# Altium schematic symbol library SamacSys.SchLib: 131 symbols (part 2 of 2)
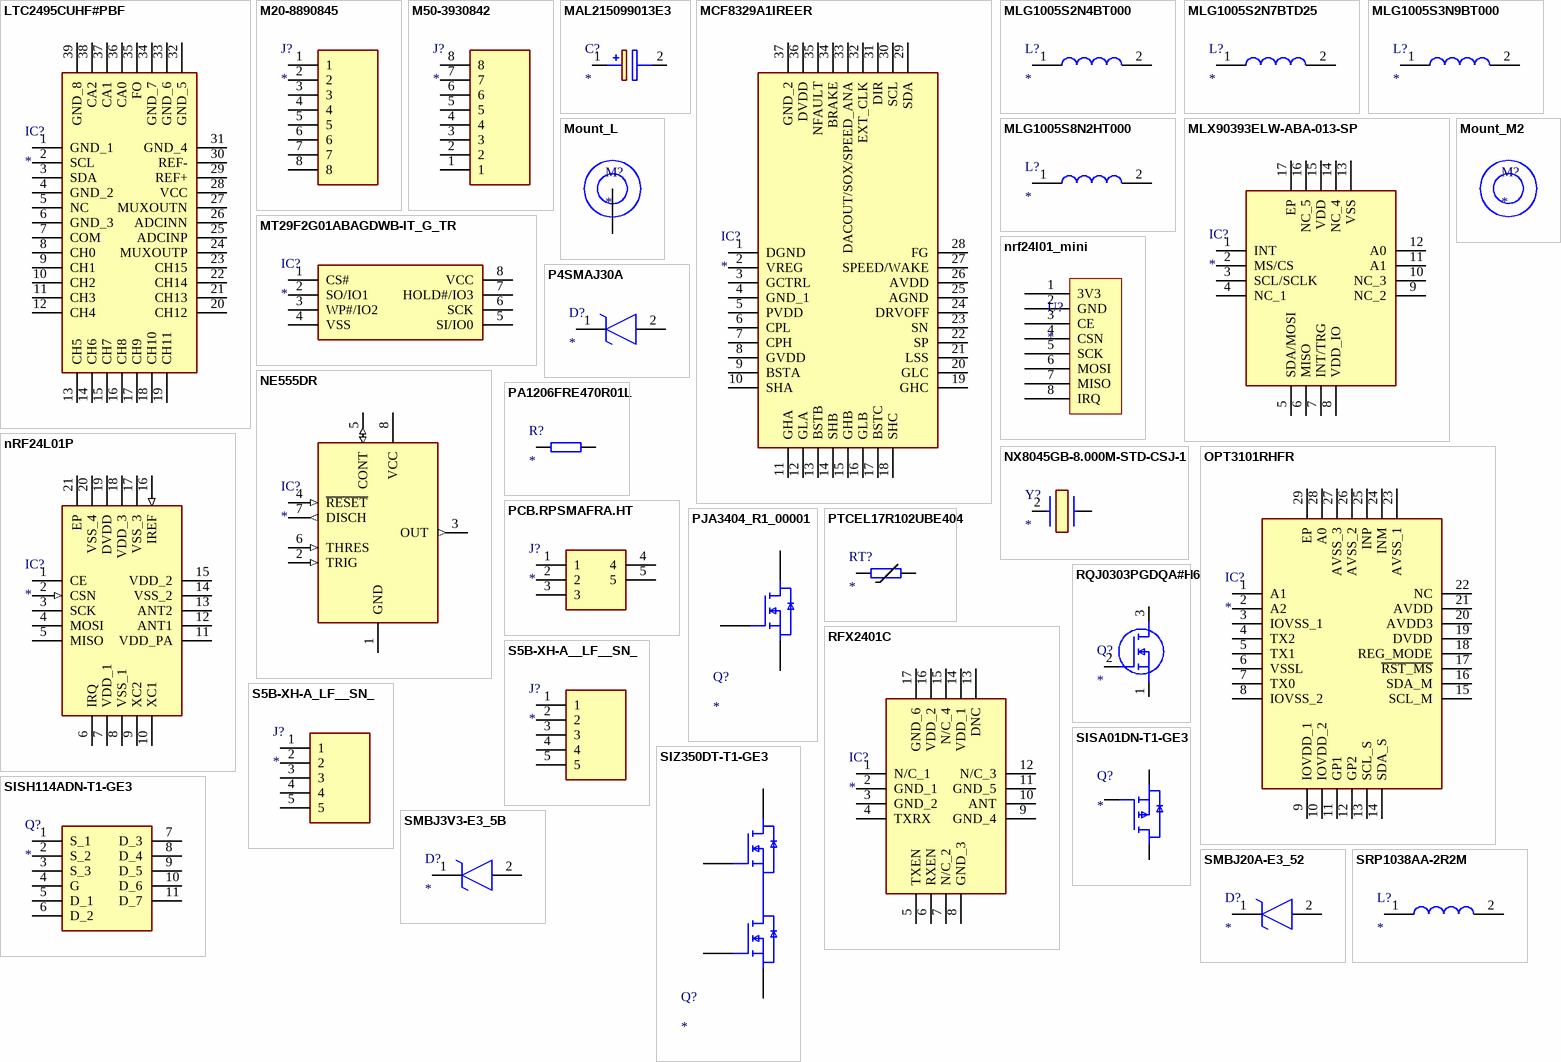
[diagram p5: symbols LTC2495CUHF#PBF to SRP1038AA-2R2M]

## PCB.RPSMAFRA.HT
designator J?
Connector; Manufacturer_Name: Taoglas; Manufacturer_Part_Number: PCB.RPSMAFRA.HT; Datasheet Link: https://www.taoglas.com/datasheets/PCB.RPSMAFRA.HT.pdf; Height: 9.5mm; Arrow Part Number: PCB.RPSMAFRA.HT; Arrow Price/Stock: https://www.arrow.com/en/products/pcb.rpsmafra.ht/taoglas?region=nac
footprint PCBRPSMAFRAHT
pins: 1, 2, 3, 4, 5

## PJA3404_R1_00001
designator Q?
Integrated Circuit; Manufacturer_Name: PANJIT; Manufacturer_Part_Number: PJA3404_R1_00001; Datasheet Link: https://www.mouser.fr/datasheet/2/1057/PJA3404-1867365.pdf; Height: 1.1mm; Mouser Part Number: 241-PJA3404_R1_00001; Mouser Price/Stock: https://www.mouser.co.uk/ProductDetail/Panjit/PJA3404_R1_00001?qs=sPbYRqrBIVkiUO9ZInE3tw%3D%3D
footprint SOT95P240X110-3N
pins: 1 G, 2 S, 3 D

## PTCEL17R102UBE404
designator RT?
Thermistor; Manufacturer_Name: Vishay; Manufacturer_Part_Number: PTCEL17R102UBE404; Datasheet Link: https://www.vishay.com/docs/29165/ptcel_series.pdf; Height: 20mm
footprint PTCEL17R102UBE404
pins: 1, 2

## RFX2401C
designator IC?
Integrated Circuit; Manufacturer_Name: Skyworks; Manufacturer_Part_Number: RFX2401C; Datasheet Link: https://eu.mouser.com/datasheet/2/472/RFX2401C_204359B-1524606.pdf; Height: 0.6mm; Arrow Part Number: RFX2401C; Arrow Price/Stock: https://www.arrow.com/en/products/rfx2401c/skyworks-solutions?region=nac
footprint QFN50P300X300X60-17N-D
pins: 1 N/C_1, 2 GND_1, 3 GND_2, 4 TXRX, 5 TXEN, 6 RXEN, 7 N/C_2, 8 GND_3, 9 GND_4, 10 ANT, 11 GND_5, 12 N/C_3, 13 DNC, 14 VDD_1, 15 N/C_4, 16 VDD_2, 17 GND_6

## RQJ0303PGDQA#H6
designator Q?
MOSFET (N-Channel); Manufacturer_Name: Renesas Electronics; Manufacturer_Part_Number: RQJ0303PGDQA#H6; Datasheet Link: https://www.mouser.in/datasheet/2/698/r07ds0295ej0600_rqj0303pgd-1093078.pdf; Height: 1.3mm; Mouser Part Number: 968-RQJ0303PGDQA#H6; Mouser Price/Stock: https://www.mouser.com/Search/Refine.aspx?Keyword=968-RQJ0303PGDQA%23H6; Arrow Part Number: RQJ0303PGDQA#H6; Arrow Price/Stock: https://www.arrow.com/en/products/rqj0303pgdqah6/renesas-electronics
footprint SOT95P260X130-3N
pins: 1 S, 2 G, 3 D

## S5B-XH-A__LF__SN_
designator J?
Connector; Manufacturer_Name: JST (JAPAN SOLDERLESS TERMINALS); Manufacturer_Part_Number: S5B-XH-A (LF)(SN); Datasheet Link: http://www.jst-mfg.com/product/pdf/eng/eXH.pdf; Height: 6.1mm
footprint SHDRRA5W64P0X250_1X5_1490X1150X610P
pins: 1, 2, 3, 4, 5

## S5B-XH-A_LF__SN_
designator J?
Connector; Manufacturer_Name: JST (JAPAN SOLDERLESS TERMINALS); Manufacturer_Part_Number: S5B-XH-A(LF)(SN); Datasheet Link: http://www.jst-mfg.com/product/pdf/eng/eXH.pdf; Height: 6.1mm; Mouser Part Number: 306-S5B-XH-ALFSN; Mouser Price/Stock: https://www.mouser.co.uk/ProductDetail/JST-Commercial/S5B-XH-ALFSN?qs=QpmGXVUTftFJm7Okp%252B2lFg%3D%3D; Arrow Part Number: S5B-XH-A(LF)(SN); Arrow Price/Stock: https://www.arrow.com/en/products/s5b-xh-a-lf-sn/jst-manufacturing?utm_currency=USD&region=europe
footprint SHDRRA5W64P0X250_1X5_1490X1150X610P
pins: 1, 2, 3, 4, 5

## SISA01DN-T1-GE3
designator Q?
MOSFET (P-Channel); Manufacturer_Name: Vishay; Manufacturer_Part_Number: SISA01DN-T1-GE3; Datasheet Link: https://www.vishay.com/docs/76198/sisa01dn.pdf; Mouser Part Number: 78-SISA01DN-T1-GE3; Mouser Price/Stock: https://www.mouser.co.uk/ProductDetail/Vishay-Semiconductors/SISA01DN-T1-GE3?qs=chTDxNqvsymq6IcOj9ze4g%3D%3D; Arrow Part Number: SISA01DN-T1-GE3; Arrow Price/Stock: https://www.arrow.com/en/products/sisa01dn-t1-ge3/vishay?region=nac
footprint SIS862DNT1GE3
pins: 1 S_1, 2 S_2, 3 S_3, 4 G, 5 D_1, 6 D_2, 7 D_3, 8 D_4, 9 D_4

## SISH114ADN-T1-GE3
designator Q?
MOSFET (N-Channel); Manufacturer_Name: Vishay; Manufacturer_Part_Number: SISH114ADN-T1-GE3; Datasheet Link: https://www.vishay.com/docs/75172/sish114ad.pdf; Height: 0.61mm; Mouser Part Number: 78-SISH114ADN-T1-GE3; Mouser Price/Stock: https://www.mouser.co.uk/ProductDetail/Vishay-Semiconductors/SISH114ADN-T1-GE3?qs=u16ybLDytRaGGJeaW9W%252Byw%3D%3D; Arrow Part Number: SISH114ADN-T1-GE3; Arrow Price/Stock: https://www.arrow.com/en/products/sish114adn-t1-ge3/vishay?region=nac
footprint SISH114ADNT1GE3
pins: 1 S_1, 2 S_2, 3 S_3, 4 G, 5 D_1, 6 D_2, 7 D_3, 8 D_4, 9 D_5, 10 D_6, 11 D_7

## SIZ350DT-T1-GE3
designator Q?
MOSFET (N-Channel); Manufacturer_Name: Vishay; Manufacturer_Part_Number: SIZ350DT-T1-GE3; Datasheet Link: https://www.vishay.com/docs/76540/siz350dt.pdf; Height: 0.8mm; Mouser Part Number: 78-SIZ350DT-T1-GE3; Mouser Price/Stock: https://www.mouser.co.uk/ProductDetail/Vishay-Semiconductors/SIZ350DT-T1-GE3?qs=lYGu3FyN48cMc1GqeZv%2F3g%3D%3D; Arrow Part Number: SIZ350DT-T1-GE3; Arrow Price/Stock: https://www.arrow.com/en/products/siz350dt-t1-ge3/vishay
footprint SIZ350DTT1GE3
pins: 1 G1, 2 D1_1, 3 D1_2, 4 D1_3, 5 S2_1, 6 S2_2, 7 S2_3, 8 G2, 9 S1/D2, 10 D1_4

## SMBJ3V3-E3_5B
designator D?
TVS Diode (Uni-directional); Manufacturer_Name: Vishay; Manufacturer_Part_Number: SMBJ3V3-E3/5B; Datasheet Link: https://www.vishay.com/docs/88940/smbj3v3.pdf; Height: 2.44mm; Mouser Part Number: 625-SMBJ3V3-E3/5B; Mouser Price/Stock: https://www.mouser.co.uk/ProductDetail/Vishay-General-Semiconductor/SMBJ3V3-E3-5B?qs=%252BKsK5HlK7GFCvIE1%252BXTysQ%3D%3D; Arrow Part Number: SMBJ3V3-E3/5B; Arrow Price/Stock: https://www.arrow.com/en/products/smbj3v3-e35b/vishay?region=nac
footprint DIOM5436X244N
pins: 1 K, 2 A

## SMBJ20A-E3_52
designator D?
TVS Diode (Uni-directional); Manufacturer_Name: Vishay; Manufacturer_Part_Number: SMBJ20A-E3/52; Datasheet Link: http://www.vishay.com/docs/88392/smbj.pdf; Height: 2.44mm; Mouser Part Number: 625-SMBJ20A-E3; Mouser Price/Stock: https://www.mouser.co.uk/ProductDetail/Vishay-General-Semiconductor/SMBJ20A-E3-52?qs=%252BKsK5HlK7GGHijeGSDEfxQ%3D%3D; Arrow Part Number: SMBJ20A-E3/52; Arrow Price/Stock: https://www.arrow.com/en/products/smbj20a-e352/vishay?region=nac
footprint DIOM5436X244N
pins: 1 K, 2 A

## SRP1038AA-2R2M
designator L?
Inductor; Manufacturer_Name: Bourns; Manufacturer_Part_Number: SRP1038AA-2R2M; Datasheet Link: https://www.bourns.com/docs/product-datasheets/srp1038aa.pdf?sfvrsn=2d1249f6_10; Height: 4mm; Mouser Part Number: 652-SRP1038AA-2R2M; Mouser Price/Stock: https://www.mouser.co.uk/ProductDetail/Bourns/SRP1038AA-2R2M?qs=CiayqK2gdcI6YlQsqke%2F8A%3D%3D; Arrow Part Number: SRP1038AA-2R2M; Arrow Price/Stock: https://www.arrow.com/en/products/srp1038aa-2r2m/bourns?region=nac
footprint INDPM110100X400N
pins: 1, 2

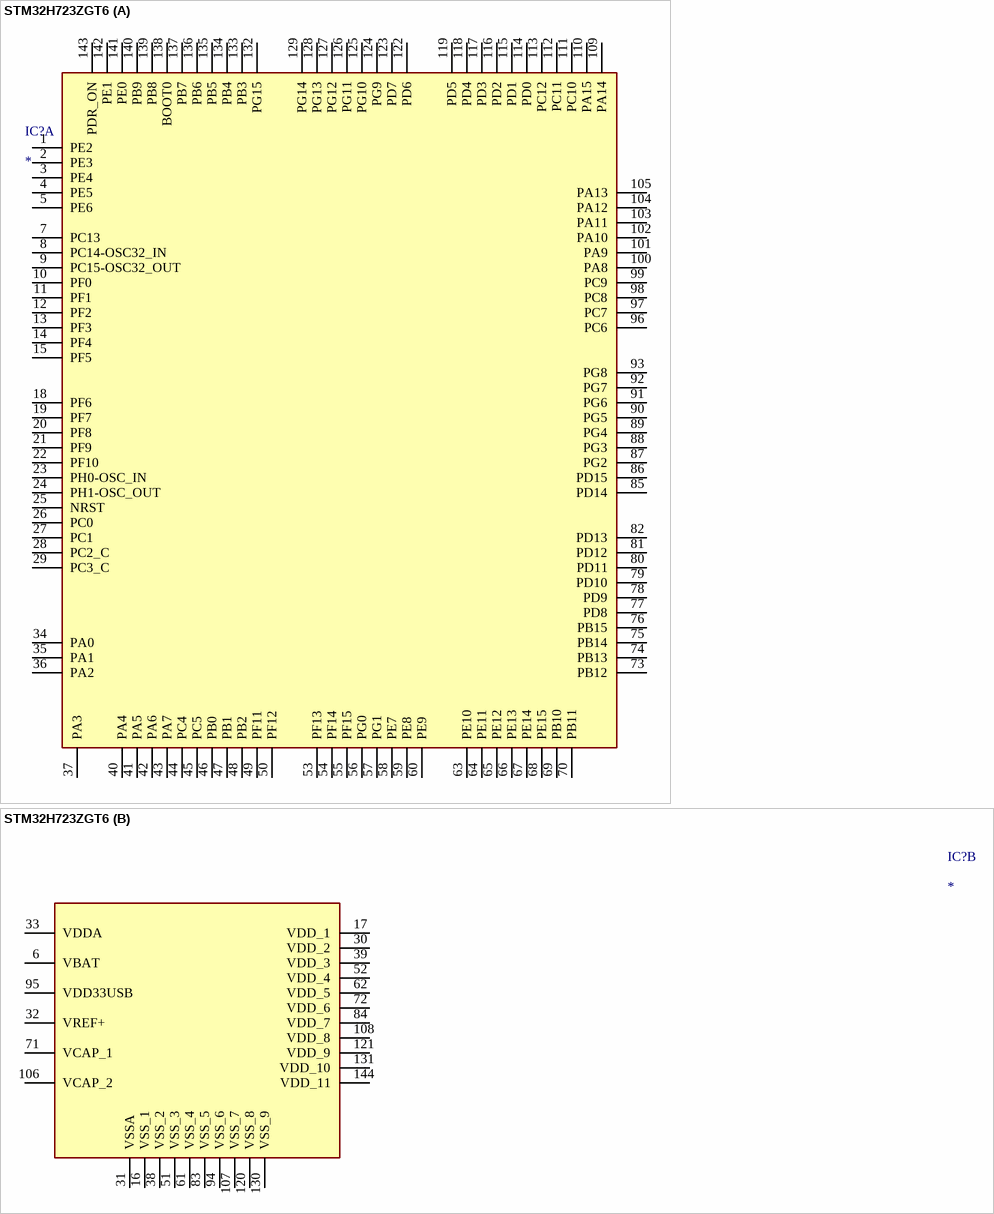
[diagram p3: symbol STM32H723ZGT6]

## STM32H723ZGT6
designator IC?
Integrated Circuit; Manufacturer_Name: STMicroelectronics; Manufacturer_Part_Number: STM32H723ZGT6; Datasheet Link: https://www.mouser.cn/datasheet/2/389/stm32h723zg-1893346.pdf; Height: 1.6mm; Mouser Part Number: 511-STM32H723ZGT6; Mouser Price/Stock: https://www.mouser.co.uk/ProductDetail/STMicroelectronics/STM32H723ZGT6?qs=sPbYRqrBIVkPaOxQT7wG%252BA%3D%3D; Arrow Part Number: STM32H723ZGT6; Arrow Price/Stock: https://www.arrow.com/en/products/stm32h723zgt6/stmicroelectronics?region=nac
footprint QFP50P2200X2200X160-144N
part A pins: 1 PE2, 2 PE3, 3 PE4, 4 PE5, 5 PE6, 7 PC13, 8 PC14-OSC32_IN, 9 PC15-OSC32_OUT, 10 PF0, 11 PF1, 12 PF2, 13 PF3, 14 PF4, 15 PF5, 18 PF6, 19 PF7, 20 PF8, 21 PF9, 22 PF10, 23 PH0-OSC_IN, 24 PH1-OSC_OUT, 25 NRST, 26 PC0, 27 PC1, 28 PC2_C, 29 PC3_C, 34 PA0, 35 PA1, 36 PA2, 37 PA3, 40 PA4, 41 PA5, 42 PA6, 43 PA7, 44 PC4, 45 PC5, 46 PB0, 47 PB1, 48 PB2, 49 PF11, 50 PF12, 53 PF13, 54 PF14, 55 PF15, 56 PG0, 57 PG1, 58 PE7, 59 PE8, 60 PE9, 63 PE10, 64 PE11, 65 PE12, 66 PE13, 67 PE14, 68 PE15, 69 PB10, 70 PB11, 73 PB12, 74 PB13, 75 PB14, 76 PB15, 77 PD8, 78 PD9, 79 PD10, 80 PD11, 81 PD12, 82 PD13, 85 PD14, 86 PD15, 87 PG2, 88 PG3, 89 PG4, 90 PG5, 91 PG6, 92 PG7, 93 PG8, 96 PC6, 97 PC7, 98 PC8, 99 PC9, 100 PA8, 101 PA9, 102 PA10, 103 PA11, 104 PA12, 105 PA13, 109 PA14, 110 PA15, 111 PC10, 112 PC11, 113 PC12, 114 PD0, 115 PD1, 116 PD2, 117 PD3, 118 PD4, 119 PD5, 122 PD6, 123 PD7, 124 PG9, 125 PG10, 126 PG11, 127 PG12, 128 PG13, 129 PG14, 132 PG15, 133 PB3, 134 PB4, 135 PB5, 136 PB6, 137 PB7, 138 BOOT0, 139 PB8, 140 PB9, 141 PE0, 142 PE1, 143 PDR_ON
part B pins: 6 VBAT, 16 VSS_1, 17 VDD_1, 30 VDD_2, 31 VSSA, 32 VREF+, 33 VDDA, 38 VSS_2, 39 VDD_3, 51 VSS_3, 52 VDD_4, 61 VSS_4, 62 VDD_5, 71 VCAP_1, 72 VDD_6, 83 VSS_5, 84 VDD_7, 94 VSS_6, 95 VDD33USB, 106 VCAP_2, 107 VSS_7, 108 VDD_8, 120 VSS_8, 121 VDD_9, 130 VSS_9, 131 VDD_10, 144 VDD_11

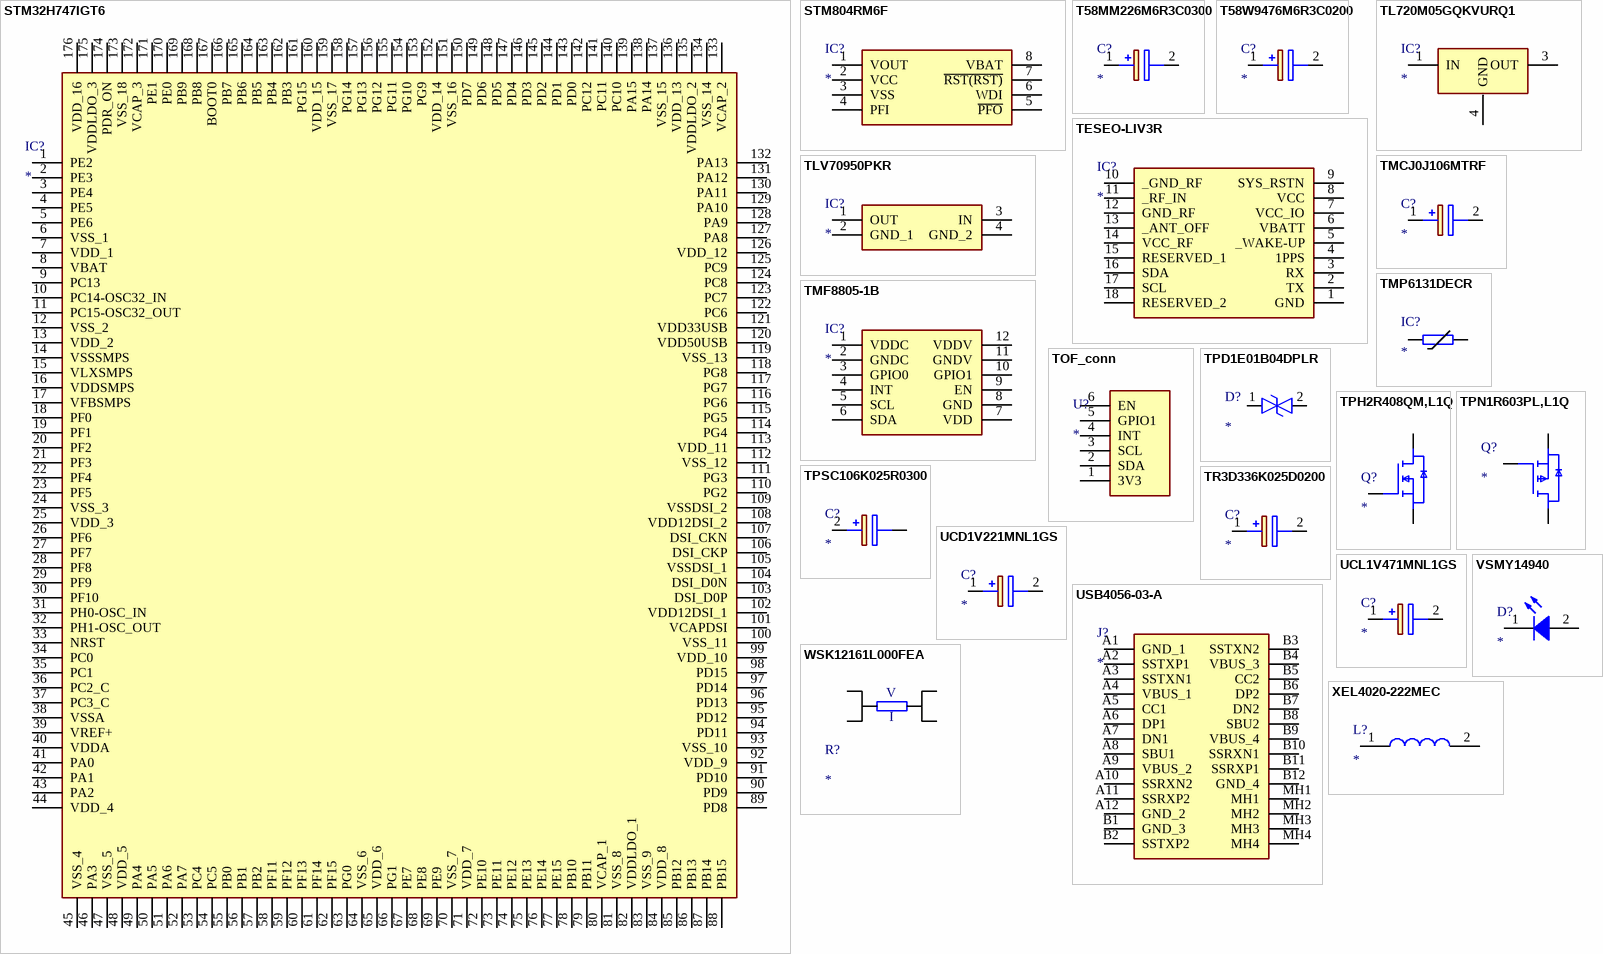
[diagram p4: symbols STM32H747IGT6 to XEL4020-222MEC]

## STM32H747IGT6
designator IC?
Integrated Circuit; Manufacturer_Name: STMicroelectronics; Manufacturer_Part_Number: STM32H747IGT6; Datasheet Link: https://www.mouser.com/datasheet/2/389/dm00602212-1799407.pdf; Height: 1.6mm; Mouser Part Number: 511-STM32H747IGT6; Mouser Price/Stock: https://www.mouser.co.uk/ProductDetail/STMicroelectronics/STM32H747IGT6?qs=%252B6g0mu59x7Kw%252BsPEalqvLg%3D%3D; Arrow Part Number: STM32H747IGT6; Arrow Price/Stock: null?region=nac
footprint QFP50P2600X2600X160-176N
pins: 1 PE2, 2 PE3, 3 PE4, 4 PE5, 5 PE6, 6 VSS_1, 7 VDD_1, 8 VBAT, 9 PC13, 10 PC14-OSC32_IN, 11 PC15-OSC32_OUT, 12 VSS_2, 13 VDD_2, 14 VSSSMPS, 15 VLXSMPS, 16 VDDSMPS, 17 VFBSMPS, 18 PF0, 19 PF1, 20 PF2, 21 PF3, 22 PF4, 23 PF5, 24 VSS_3, 25 VDD_3, 26 PF6, 27 PF7, 28 PF8, 29 PF9, 30 PF10, 31 PH0-OSC_IN, 32 PH1-OSC_OUT, 33 NRST, 34 PC0, 35 PC1, 36 PC2_C, 37 PC3_C, 38 VSSA, 39 VREF+, 40 VDDA, 41 PA0, 42 PA1, 43 PA2, 44 VDD_4, 45 VSS_4, 46 PA3, 47 VSS_5, 48 VDD_5, 49 PA4, 50 PA5, 51 PA6, 52 PA7, 53 PC4, 54 PC5, 55 PB0, 56 PB1, 57 PB2, 58 PF11, 59 PF12, 60 PF13, 61 PF14, 62 PF15, 63 PG0, 64 VSS_6, 65 VDD_6, 66 PG1, 67 PE7, 68 PE8, 69 PE9, 70 VSS_7, 71 VDD_7, 72 PE10, 73 PE11, 74 PE12, 75 PE13, 76 PE14, 77 PE15, 78 PB10, 79 PB11, 80 VCAP_1, 81 VSS_8, 82 VDDLDO_1, 83 VSS_9, 84 VDD_8, 85 PB12, 86 PB13, 87 PB14, 88 PB15, 89 PD8, 90 PD9, 91 PD10, 92 VDD_9, 93 VSS_10, 94 PD11, 95 PD12, 96 PD13, 97 PD14, 98 PD15, 99 VDD_10, 100 VSS_11, 101 VCAPDSI, 102 VDD12DSI_1, 103 DSI_D0P, 104 DSI_D0N, 105 VSSDSI_1, 106 DSI_CKP, 107 DSI_CKN, 108 VDD12DSI_2, 109 VSSDSI_2, 110 PG2, 111 PG3, 112 VSS_12, 113 VDD_11, 114 PG4, 115 PG5, 116 PG6, 117 PG7, 118 PG8, 119 VSS_13, 120 VDD50USB, 121 VDD33USB, 122 PC6, 123 PC7, 124 PC8, 125 PC9, 126 VDD_12, 127 PA8, 128 PA9, 129 PA10, 130 PA11, 131 PA12, 132 PA13, 133 VCAP_2, 134 VSS_14, 135 VDDLDO_2, 136 VDD_13, 137 VSS_15, 138 PA14, 139 PA15, 140 PC10, 141 PC11, 142 PC12, 143 PD0, 144 PD1, 145 PD2, 146 PD3, 147 PD4, 148 PD5, 149 PD6, 150 PD7, 151 VSS_16, 152 VDD_14, 153 PG9, 154 PG10, 155 PG11, 156 PG12, 157 PG13, 158 PG14, 159 VSS_17, 160 VDD_15, 161 PG15, 162 PB3, 163 PB4, 164 PB5, 165 PB6, 166 PB7, 167 BOOT0, 168 PB8, 169 PB9, 170 PE0, 171 PE1, 172 VCAP_3, 173 VSS_18, 174 PDR_ON, 175 VDDLDO_3, 176 VDD_16

## STM804RM6F
designator IC?
Integrated Circuit; Manufacturer_Name: STMicroelectronics; Manufacturer_Part_Number: STM804RM6F; Datasheet Link: https://www.st.com/resource/en/datasheet/stm690t-slsh-s-slsh-r.pdf; Height: 1.75mm
footprint SOIC127P600X175-8N
pins: 1 VOUT, 2 VCC, 3 VSS, 4 PFI, 5 ~{PFO}, 6 WDI, 7 ~{RST(RST)}, 8 VBAT

## T58MM226M6R3C0300
designator C?
Capacitor Polarised; Manufacturer_Name: Vishay; Manufacturer_Part_Number: T58MM226M6R3C0300; Datasheet Link: https://componentsearchengine.com/Datasheets/2/T58MM226M6R3C0300.pdf; Height: 0.9mm; Arrow Part Number: T58MM226M6R3C0300; Arrow Price/Stock: https://www.arrow.com/en/products/t58mm226m6r3c0300/vishay?utm_currency=USD&region=nac
footprint T58MM226M6R3C0300
pins: 1 +, 2 -

## T58W9476M6R3C0200
designator C?
Capacitor Polarised; Manufacturer_Name: Vishay; Manufacturer_Part_Number: T58W9476M6R3C0200; Datasheet Link: https://www.vishay.com/docs/40189/t58.pdf; Height: 0.9mm; Mouser Part Number: 74-T58W9476M6R3C0200; Mouser Price/Stock: https://www.mouser.com/Search/Refine.aspx?Keyword=74-T58W9476M6R3C0200
footprint CAPPC2012X90N
pins: 1 +, 2 -

## TESEO-LIV3R
designator IC?
Integrated Circuit; Manufacturer_Name: STMicroelectronics; Manufacturer_Part_Number: TESEO-LIV3R; Datasheet Link: https://www.st.com/resource/en/datasheet/teseo-liv3r.pdf; Height: 2.3mm; Mouser Part Number: 511-TESEO-LIV3R; Mouser Price/Stock: https://www.mouser.co.uk/ProductDetail/STMicroelectronics/TESEO-LIV3R?qs=ZSypp649SOXG7EmhCFcBlw%3D%3D; Arrow Part Number: TESEO-LIV3R; Arrow Price/Stock: https://www.arrow.com/en/products/teseo-liv3r/stmicroelectronics?region=nac
footprint TESEOLIV3R
pins: 1 GND, 2 TX, 3 RX, 4 1PPS, 5 _WAKE-UP, 6 VBATT, 7 VCC_IO, 8 VCC, 9 SYS_RSTN, 10 _GND_RF, 11 _RF_IN, 12 GND_RF, 13 _ANT_OFF, 14 VCC_RF, 15 RESERVED_1, 16 SDA, 17 SCL, 18 RESERVED_2

## TL720M05GQKVURQ1
designator IC?
Integrated Circuit; Manufacturer_Name: Texas Instruments; Manufacturer_Part_Number: TL720M05GQKVURQ1; Datasheet Link: http://www.ti.com/lit/gpn/tl720m05-q1; Height: 2.52mm; Mouser Part Number: 595-TL720M05GQKVURQ1; Mouser Price/Stock: https://www.mouser.co.uk/ProductDetail/Texas-Instruments/TL720M05GQKVURQ1?qs=34RfhUjJmKfV09QCCUZOwA%3D%3D; Arrow Part Number: TL720M05GQKVURQ1; Arrow Price/Stock: https://www.arrow.com/en/products/tl720m05gqkvurq1/texas-instruments?region=nac
footprint TL720M05GQKVURQ1
pins: 1 IN, 3 OUT, 4 GND

## TLV70950PKR
designator IC?
Integrated Circuit; Manufacturer_Name: Texas Instruments; Manufacturer_Part_Number: TLV70950PKR; Datasheet Link: https://www.ti.com/lit/gpn/tlv709; Height: 1.6mm; Mouser Part Number: 595-TLV70950PKR; Mouser Price/Stock: https://www.mouser.co.uk/ProductDetail/Texas-Instruments/TLV70950PKR?qs=dbcCsuKDzFU3yYGsVf2izQ%3D%3D; Arrow Part Number: TLV70950PKR; Arrow Price/Stock: null?region=nac
footprint TL431AQPKG3
pins: 1 OUT, 2 GND_1, 3 IN, 4 GND_2

## TMCJ0J106MTRF
designator C?
Capacitor Polarised; Manufacturer_Name: Vishay; Manufacturer_Part_Number: TMCJ0J106MTRF; Datasheet Link: https://componentsearchengine.com/Datasheets/2/TMCJ0J106MTRF.pdf; Height: 0.9mm; Mouser Part Number: 74-TMCJ0J106MTRF; Mouser Price/Stock: https://www.mouser.co.uk/ProductDetail/Vishay-Sprague/TMCJ0J106MTRF?qs=WatphXlIDnwX%2FmRnq8idiA%3D%3D; Arrow Part Number: TMCJ0J106MTRF; Arrow Price/Stock: https://www.arrow.com/en/products/tmcj0j106mtrf/vishay
footprint CAPPM168X90N
pins: 1 +, 2 -

## TMF8805-1B
designator IC?
Integrated Circuit; Manufacturer_Name: ams OSRAM; Manufacturer_Part_Number: TMF8805-1B; Datasheet Link: https://ams.com/documents/20143/4372629/TMF8805_DS000692_4-00.pdf; Height: 1.1mm; Mouser Part Number: 985-TMF8805-1B; Mouser Price/Stock: https://www.mouser.co.uk/ProductDetail/ams-OSRAM/TMF8805-1B?qs=sPbYRqrBIVlwsjHE%2F%252BrL9g%3D%3D
footprint TMF88051B
pins: 1 VDDC, 2 GNDC, 3 GPIO0, 4 INT, 5 SCL, 6 SDA, 7 VDD, 8 GND, 9 EN, 10 GPIO1, 11 GNDV, 12 VDDV

## TMP6131DECR
designator IC?
Integrated Circuit; Manufacturer_Name: Texas Instruments; Manufacturer_Part_Number: TMP6131DECR; Datasheet Link: http://www.ti.com/lit/gpn/TMP61; Height: 0.5mm; Mouser Part Number: 595-TMP6131DECR; Mouser Price/Stock: https://www.mouser.co.uk/ProductDetail/Texas-Instruments/TMP6131DECR?qs=l7cgNqFNU1jnXQehRCOLwA%3D%3D; Arrow Part Number: TMP6131DECR; Arrow Price/Stock: https://www.arrow.com/en/products/tmp6131decr/texas-instruments?region=nac
footprint TMP6131DECR
pins: 1, 2

## TOF_conn
designator U?
footprint PCBComponent_1
pins: 1 3V3, 2 SDA, 3 SCL, 4 INT, 5 GPIO1, 6 EN

## TPD1E01B04DPLR
designator D?
Integrated Circuit; Manufacturer_Name: Texas Instruments; Manufacturer_Part_Number: TPD1E01B04DPLR; Datasheet Link: http://www.ti.com/lit/gpn/tpd1e01b04; Mouser Part Number: 595-TPD1E01B04DPLR; Mouser Price/Stock: https://www.mouser.co.uk/ProductDetail/Texas-Instruments/TPD1E01B04DPLR?qs=uP22XH7NdCsrFm7BXQml9g%3D%3D; Arrow Part Number: TPD1E01B04DPLR; Arrow Price/Stock: https://www.arrow.com/en/products/tpd1e01b04dplr/texas-instruments?region=nac
footprint DPL-(R-PX2SON-N2)
pins: 1, 2

## TPH2R408QM,L1Q
designator Q?
MOSFET (N-Channel); Manufacturer_Name: Toshiba; Manufacturer_Part_Number: TPH2R408QM,L1Q; Datasheet Link: https://toshiba.semicon-storage.com/info/docget.jsp?did=67915&prodName=TPH2R408QM; Height: 0.95mm; Mouser Part Number: 757-TPH2R408QM,L1Q; Mouser Price/Stock: https://www.mouser.co.uk/ProductDetail/Toshiba/TPH2R408QML1Q?qs=xZ%2FP%252Ba9zWqYNCnHzXd0pWA%3D%3D
footprint TPH2R408QML1Q
pins: 1 S_1, 2 S_2, 3 S_3, 4 G, 5 D_1, 6 D_2, 7 D_3, 8 D_4, 9 D_5

## TPN1R603PL,L1Q
designator Q?
MOSFET (N-Channel); Manufacturer_Name: Toshiba; Manufacturer_Part_Number: TPN1R603PL,L1Q; Datasheet Link: https://toshiba.semicon-storage.com/ap-en/semiconductor/product/mosfets/12v-300v-mosfets/detail.TPN1R603PL.html; Height: 0.9mm; Mouser Part Number: 757-TPN1R603PLL1Q; Mouser Price/Stock: https://www.mouser.co.uk/ProductDetail/Toshiba/TPN1R603PLL1Q?qs=bUPhaerQQeGYpGlYi%252BLguw%3D%3D; Arrow Part Number: TPN1R603PL,L1Q; Arrow Price/Stock: https://www.arrow.com/en/products/tpn1r603pll1q/toshiba?utm_currency=USD&region=nac
footprint TPN1R603PLL1Q
pins: 1 S_1, 2 S_2, 3 S_3, 4 G, 5 D_1, 6 D_2, 7 D_3, 8 D_4, 9 D_4

## TPSC106K025R0300
designator C?
Capacitor Polarised; Manufacturer_Name: Kyocera AVX; Manufacturer_Part_Number: TPSC106K025R0300; Datasheet Link: http://datasheets.avx.com/TPS.pdf; Height: 2.8mm; Mouser Part Number: 581-TPSC106K025R0300; Mouser Price/Stock: https://www.mouser.co.uk/ProductDetail/KYOCERA-AVX/TPSC106K025R0300?qs=xw8XwkEH2YWR0VQHvdYBmg%3D%3D; Arrow Part Number: TPSC106K025R0300; Arrow Price/Stock: https://www.arrow.com/en/products/tpsc106k025r0300/avx
footprint CAPPM6032X280N
pins: 2, ?1

## TR3D336K025D0200
designator C?
Capacitor Polarised; Manufacturer_Name: Vishay; Manufacturer_Part_Number: TR3D336K025D0200; Datasheet Link: http://www.vishay.com/doc?40080; Height: 3.1mm; Mouser Part Number: 74-TR3D336K025D0200; Mouser Price/Stock: https://www.mouser.com/Search/Refine.aspx?Keyword=74-TR3D336K025D0200
footprint CAPPM7343X310N
pins: 1 +, 2 -

## UCD1V221MNL1GS
designator C?
Capacitor Polarised; Manufacturer_Name: Nichicon; Manufacturer_Part_Number: UCD1V221MNL1GS; Datasheet Link: http://nichicon-us.com/english/products/pdfs/e-ucd.pdf; Height: 10.8mm; Mouser Part Number: 647-UCD1V221MNL1GS; Mouser Price/Stock: https://www.mouser.co.uk/ProductDetail/Nichicon/UCD1V221MNL1GS?qs=c0uEScvPYN17qZQKPp9AhQ%3D%3D; Arrow Part Number: UCD1V221MNL1GS; Arrow Price/Stock: null?region=nac
footprint CAPAE830X1080N
pins: 1 +, 2 -

## UCL1V471MNL1GS
designator C?
Capacitor Polarised; Manufacturer_Name: Nichicon; Manufacturer_Part_Number: UCL1V471MNL1GS; Datasheet Link: https://componentsearchengine.com/Datasheets/2/UCL1V471MNL1GS.pdf; Height: 14mm; Mouser Part Number: 647-UCL1V471MNL1GS; Mouser Price/Stock: https://www.mouser.co.uk/ProductDetail/Nichicon/UCL1V471MNL1GS?qs=eL6fcoQH66OJ00kUg6bCbQ%3D%3D; Arrow Part Number: UCL1V471MNL1GS; Arrow Price/Stock: https://www.arrow.com/en/products/ucl1v471mnl1gs/nichicon
footprint CAPAE1030X1400N
pins: 1 +, 2 -

## USB4056-03-A
designator J?
Connector; Manufacturer_Name: GCT (GLOBAL CONNECTOR TECHNOLOGY); Manufacturer_Part_Number: USB4056-03-A; Datasheet Link: https://www.mouser.jp/datasheet/2/837/usb4056-2448808.pdf; Height: 3.56mm; Mouser Part Number: 640-USB4056-03-A; Mouser Price/Stock: https://www.mouser.co.uk/ProductDetail/GCT/USB4056-03-A?qs=QNEnbhJQKvbZ7hZzgFEugA%3D%3D
footprint USB405603A
pins: A1 GND_1, A2 SSTXP1, A3 SSTXN1, A4 VBUS_1, A5 CC1, A6 DP1, A7 DN1, A8 SBU1, A9 VBUS_2, A10 SSRXN2, A11 SSRXP2, A12 GND_2, B1 GND_3, B2 SSTXP2, B3 SSTXN2, B4 VBUS_3, B5 CC2, B6 DP2, B7 DN2, B8 SBU2, B9 VBUS_4, B10 SSRXN1, B11 SSRXP1, B12 GND_4, MH1, MH2, MH3, MH4

## VSMY14940
designator D?
LED; Manufacturer_Name: Vishay; Manufacturer_Part_Number: VSMY14940; Datasheet Link: https://datasheet.datasheetarchive.com/originals/distributors/Datasheets-DGA2/206314.pdf; Height: 2.61mm; Mouser Part Number: 782-VSMY14940; Mouser Price/Stock: https://www.mouser.co.uk/ProductDetail/Vishay-Semiconductors/VSMY14940?qs=9WVFMhxtvWBVEeVQIIO50g%3D%3D; Arrow Part Number: VSMY14940; Arrow Price/Stock: https://www.arrow.com/en/products/vsmy14940/vishay?region=nac
footprint LEDC3012X261N
pins: 1 K, 2 A

## WSK12161L000FEA
designator R?
Resistor; Manufacturer_Name: Vishay; Manufacturer_Part_Number: WSK1216L5000FEA; Datasheet Link: http://www.vishay.com/docs/30189/wsk1216.pdf; Height: 1.9mm; Mouser Part Number: 71-WSK1216L5000FEA; Mouser Price/Stock: https://www.mouser.co.uk/ProductDetail/Vishay-Dale/WSK1216L5000FEA?qs=OlC7AqGiEDlM2wGD42LFoQ%3D%3D; Arrow Part Number: WSK1216L5000FEA; Arrow Price/Stock: https://www.arrow.com/en/products/wsk1216l5000fea/vishay?region=nac
footprint WSK12161L000FEA
pins: 1, 2, 3, 4
text: V; I

## XEL4020-222MEC
designator L?
Inductor; Manufacturer_Name: COILCRAFT; Manufacturer_Part_Number: XEL4020-222MEC; Height: 2.1mm; Mouser Part Number: 994-XEL4020-222MEC; Mouser Price/Stock: https://www.mouser.co.uk/ProductDetail/Coilcraft/XEL4020-222MEC?qs=chTDxNqvsynf4rqMeCpizg%3D%3D
footprint XEL4020222MEC
pins: 1, 2